# Altium schematic symbol library Piezoelectric.SchLib: 7 symbols
Pins are listed as number, name and electrical type; pins without a type are passive.

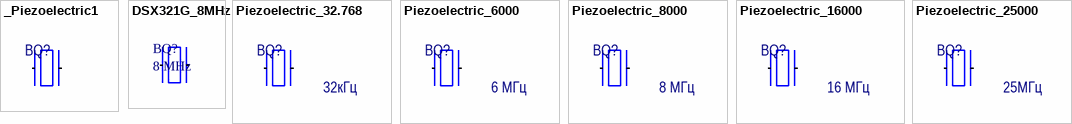
[diagram p0: symbols _Piezoelectric1 to Piezoelectric_25000]

## _Piezoelectric1
designator BQ?, comment ?  (value not drawn)
Piezoelectric elements; ComponentLink1Description: Datasheet; Value: ?; ManufacturerPartNumber: *
pins: 1, 2

## DSX321G_8MHz
designator BQ?, comment 8 MHz
Value: 8 MHz
footprint DSX321G
pins: 1, 3

## Piezoelectric_32.768
designator BQ?, comment 32кГц
Piezoelectric elements; Manufacturer: Taizhou; Note: 20ppm 12,5pF; ComponentLink1URL: http://www.promelec.ru/catalog_info/54/126/246/70/; ComponentLink1Description: Datasheet; Package: SD26; Price: 10; Supplier: Промэлектроника; ComponentLink2Description: Datasheet-local; ManufacturerPartNumber: 32 кГц; Value: 32кГц
footprint SD26 (Корпус кварца на 32кГц)
footprint SD26-R (Корпус кварца на 32кГц (лежачий))
pins: 1, 2

## Piezoelectric_6000
designator BQ?, comment 6 МГц
Piezoelectric elements; Manufacturer: Taizhou; ManufacturerPartNumber: 6000 кГц; Note: 20ppm 20pF; ComponentLink1URL: http://www.promelec.ru/catalog_info/54/126/246/70/; ComponentLink1Description: Datasheet; Package: HC-49/S; Price: 10; Supplier: Промэлектроника; Value: 6 МГц
footprint HC-49/S
footprint HC-49/US-SMD
pins: 1, 2

## Piezoelectric_8000
designator BQ?, comment 8 МГц
Piezoelectric elements; Manufacturer: Taizhou; ManufacturerPartNumber: 8000 кГц; Note: 20ppm 20pF; ComponentLink1URL: http://www.promelec.ru/catalog_info/54/126/246/70/; ComponentLink1Description: Datasheet; Package: HC-49/S; Price: 10; Supplier: Промэлектроника; Value: 8 МГц
footprint HC-49/S
footprint HC-49/US-SMD
pins: 1, 2

## Piezoelectric_16000
designator BQ?, comment 16 МГц
Piezoelectric elements; Manufacturer: Taizhou; ManufacturerPartNumber: 16000 кГц 20ppm 20pF; ComponentLink1URL: http://www.promelec.ru/catalog_info/54/126/246/70/; ComponentLink1Description: Datasheet; Package: HC-49/S; Price: 8,54; Supplier: Промэлектроника; Value: 16 МГц
footprint HC-49/S
footprint HC-49/US-SMD
pins: 1, 2

## Piezoelectric_25000
designator BQ?, comment 25МГц
Piezoelectric elements; Manufacturer: *; ManufacturerPartNumber: *; ComponentLink1URL: *; ComponentLink1Description: *; Supplier: *; Note: *; Price: *; Value: 25МГц
footprint HC-49/S
footprint HC-49/US-SMD
pins: 1, 2